# Altium schematic symbol library Schlib1.SchLib: 71 symbols (part 2 of 2)
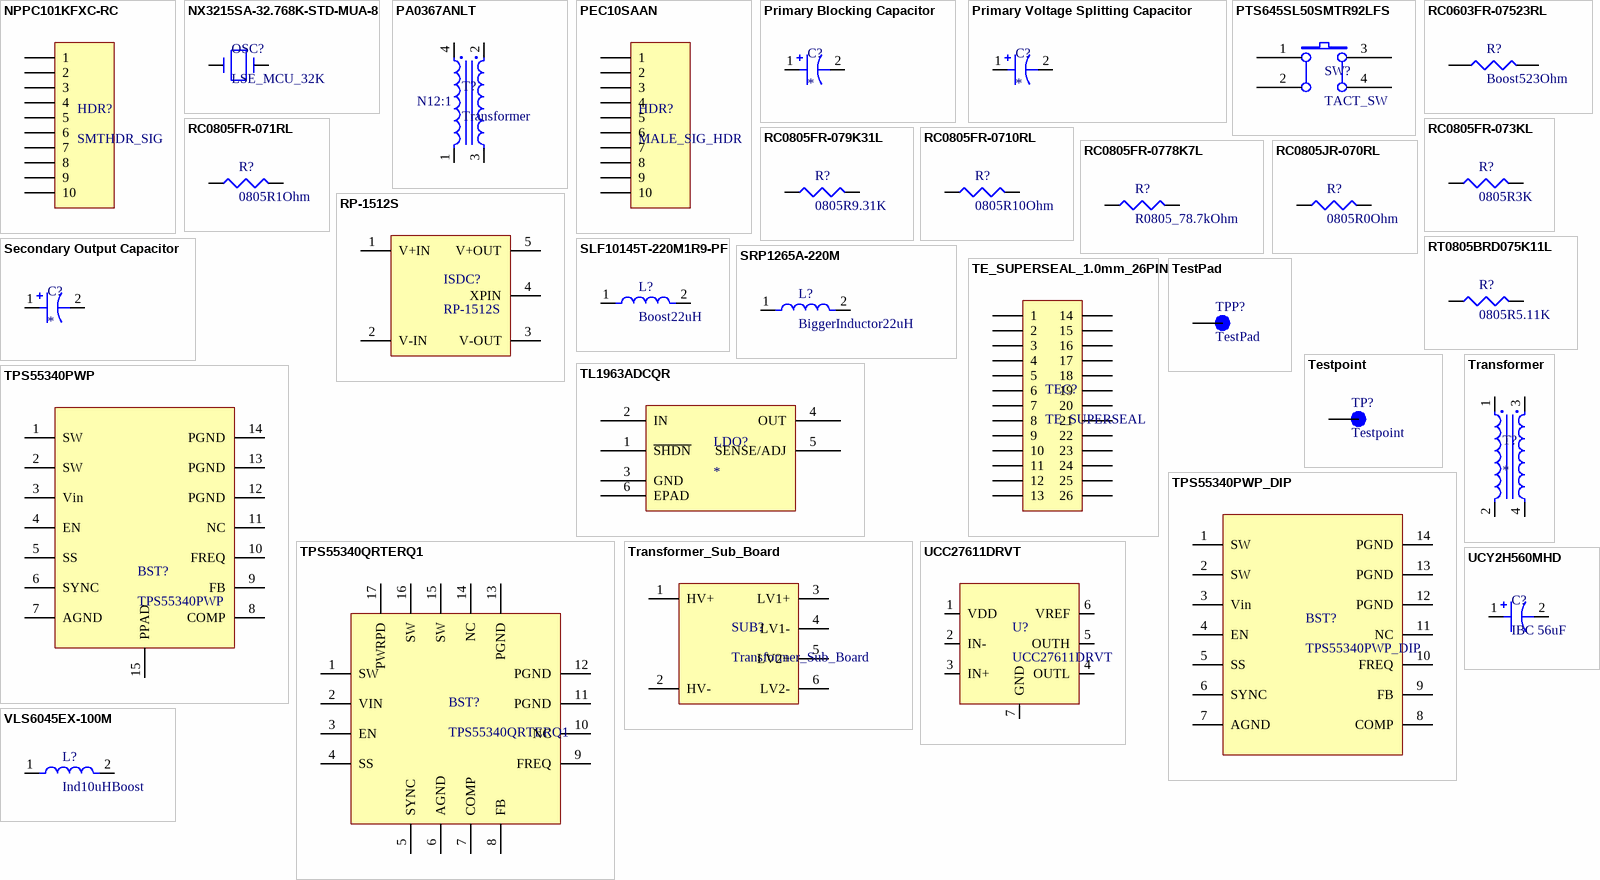
[diagram p2: symbols NPPC101KFXC-RC to VLS6045EX-100M]

## PA0367ANLT
designator T?, comment Transformer
TRANSFORMER 18UH 1:12 SMD; Manufacturer: Pulse Electronics; Manufacturer Part Number: PA0367ANLT; Chipset Manufacturer: Linear Technology; Type: For DC/DC Converters; Intended Chipset: LT3420; Voltage - Isolation: 500Vrms; Online Catalog: SMT Flyback Transformer; Other Names: 553-1978-6; Supplier 1: Digi-Key; Stock 1: 4609; Pricing 1: 1=4.47, 10=3.619, 25=2.926, 50=2.7412, 100=2.618 (USD); Standard Package: 1; Category: Transformers; Family: Switching Converter, SMPS Transformers; Series: -; Packaging: Digi-Reel®; Applications: Flyback Converters; Voltage - Primary: -; Voltage - Auxillary: -; Frequency: -; Operating Temperature: -40°C ~ 130°C; Mounting Type: Surface Mount; Size / Dimension: 11.68mm L x 11.68mm W; Height - Seated (Max): 5.20mm; ComponentLink1URL: http://www.mouser.com/ds/2/336/-8284.pdf; ComponentLink1Description: http://www.mouser.com/ds/2/336/-8284.pdf; ComponentLink2URL: https://media.digikey.com/pdf/Data%20Sheets/Pulse%20PDFs/PA0367A.pdf; ComponentLink2Description: https://media.digikey.com/pdf/Data%20Sheets/Pulse%20PDFs/PA0367A.pdf; ComponentLink3URL: http://productfinder.pulseeng.com/products/datasheets/P563.pdf; ComponentLink3Description: http://productfinder.pulseeng.com/products/datasheets/P563.pdf
pins: 1, 2, 3, 4
text: N12:1

## PEC10SAAN
designator HDR?, comment MALE_SIG_HDR
CONN HEADER .100 SINGL STR 10POS; Manufacturer: Sullins; Manufacturer Part Number: PEC10SAAN; Catalog Drawings: PEC,PBC Series Single Side / PEC,PBC Series Straight Front; Connector Type: Header, Unshrouded, Breakaway; Number of Positions: 10; Number of Positions Loaded: All; Pitch: 0.100" (2.54mm); Dynamic Catalog: GxC and PxC; Mating Products: S7043-ND / - CONN HEADER FMALE 10POS .1" GOLD / S7008-ND / - CONN HEADER FEMALE 10POS.1" TIN / S5641-ND / - CONN FMALE 10POS .1" SMD GOLD / S5602-ND / - CONN FEMALE 10POS .1" SMD TIN / S5485-ND / - CONN FEMALE 10POS .100" R/A GOLD / S5446-ND / - CONN FEMALE 10POS .100" R/A TIN / S4540-ND / - CONN FMALE 10POS .1" SMD GOLD / S4501-ND / - CONN FEMALE 10POS .1" SMD TIN / S4384-ND / - CONN FEMALE 10POS .100" R/A GOLD / S4345-ND / - CONN FEMALE 10POS .100" R/A TIN / More...; Other Names: S1012E-10; Supplier 1: Digi-Key; Stock 1: 1365; Pricing 1: 1=0.59, 10=0.55, 25=0.4948, 50=0.44, 100=0.4217, 250=0.385, 500=0.3667 (USD); Standard Package: 1; Category: Connectors, Interconnects; Family: Rectangular Connectors - Headers, Male Pins; Contact Type: Male Pin; Number of Rows: 1; Contact Mating Length: 0.230" (5.84mm); Mounting Type: Through Hole; Termination: Solder; Contact Finish: Tin; Contact Finish Thickness: 100µin (2.54µm); Color: Black; Packaging: Bulk
footprint DIP_10_MALE
pins: 1, 2, 3, 4, 5, 6, 7, 8, 9, 10

## Primary Blocking Capacitor
designator C?
Primary Blocking Capacitor
pins: 1, 2

## Primary Voltage Splitting Capacitor
designator C?
Primary Voltage Splitting Capacitor
pins: 1, 2

## PTS645SL50SMTR92LFS
designator SW?, comment TACT_SW
SWITCH TACTILE SPST-NO 0.05A 12V; Manufacturer: ITT C&K; Manufacturer Part Number: PTS645SL50SMTR92LFS; Actuator Style: Round Button; Body Orientation: Straight; Ground Terminal: No; Illumination Type: Not Required; Mechanical Life: 100000; Operating Force: 1.27 N; Pole Throw Configuration: SPST; Product Depth (mm): 9 mm; Product Height (mm): 5 mm; Product Length (mm): 6 mm; Switch Function Configuration: N.O.; Supplier 1: Digi-Key; Stock 1: 107182; Pricing 1: 1=0.16, 10=0.157, 25=0.1516, 50=0.1462, 100=0.1381, 250=0.13, 500=0.1245 (USD); Contact Plating: Silver; Current Rating (Max): 0.05 A; Mounting Style: Surface Mount; Operating Temp Range: -20C to 60C; Packaging: Tape and Reel; Terminal Type: Gull Wing; Voltage Rating (VDC): 12 V; ComponentLink1URL: https://www.ckswitches.com/media/1471/pts645.pdf; ComponentLink1Description: https://www.ckswitches.com/media/1471/pts645.pdf; ComponentLink2URL: //media.digikey.com/pdf/Data%20Sheets/C&K/PTS645_Series.pdf; ComponentLink2Description: //media.digikey.com/pdf/Data%20Sheets/C&K/PTS645_Series.pdf; ComponentLink3URL: http://www.farnell.com/datasheets/1839862.pdf; ComponentLink3Description: http://www.farnell.com/datasheets/1839862.pdf; ComponentLink4URL: https://www.verical.com/server-webapp/html/getDatasheet?partID=760859; ComponentLink4Description: https://www.verical.com/server-webapp/html/getDatasheet?partID=760859
footprint PUSH_SW
pins: 1 A0, 2 A1, 3 B0, 4 B1

## RC0603FR-07523RL
designator R?, comment Boost523Ohm
RES SMD 523 OHM 1% 1/10W 0603; Manufacturer: Yageo; Manufacturer Part Number: RC0603FR-07523RL; Product Training Modules: Chip Resistor; Catalog Drawings: Thick Film Resistor Side; PCN Other: RC/AC 0603/0805/1206 22/Jan/2013; HTML Datasheet: RC Series, L Suffix Datasheet.html; EDA / CAD Models: Download from Accelerated Designs; Resistance (Ohms): 523; Power (Watts): 0.1W, 1/10W; Temperature Coefficient: ±100ppm/°C; Online Catalog: RC0603 Series; Kits: PHH3-KIT-ND  - RES KIT 100-976 1/10W 5700PCS; Other Names: 311-523HRCT; Supplier 1: Digi-Key; Stock 1: 0; Standard Package: 1; Category: Resistors; Family: Chip Resistor - Surface Mount; Series: RC; Packaging: Cut Tape (CT); Tolerance: ±1%; Composition: Thick Film; Features: Moisture Resistant; Operating Temperature: -55°C ~ 155°C; Package / Case: 0603 (1608 Metric); Supplier Device Package: 0603; Size / Dimension: 0.063" L x 0.031" W (1.60mm x 0.80mm); Height: 0.022" (0.55mm); Number of Terminations: 2; ComponentLink1URL: http://www.yageo.com/documents/recent/PYu-RC_Group_51_RoHS_L_9.pdf; ComponentLink1Description: http://www.yageo.com/documents/recent/PYu-RC_Group_51_RoHS_L_9.pdf; Supplier Part Number 1: 311-523HRTR-ND
footprint C/R0603
pins: 1, 2

## RC0805FR-071RL
designator R?, comment 0805R1Ohm
RES SMD 1 OHM 1% 1/8W 0805; Manufacturer: Yageo; Manufacturer Part Number: RC0805FR-071RL; Resistance: 1 Ohms; Power Rating: 125 mW (1/8 W); Voltage Rating: 150 V; Temperature Coefficient: 200 PPM / C; Supplier 1: Digi-Key; Stock 1: 179809; Pricing 1: 1=0.1, 10=0.082, 100=0.0316, 1000=0.0139, 2500=0.012 (USD); Termination Style: SMD/SMT; Product: Thick Film Resistors General Purpose; Tolerance: 1 %; Case Code - in: 0805; Case Code - mm: 2012; Series: RC; Operating Temperature Range: - 55 C to + 155 C; Packaging: Reel; Supplier Part Number 1: 311-1.00CRCT-ND
footprint C/R0805
pins: 1, 2

## RC0805FR-073KL
designator R?, comment 0805R3K
RES SMD 3K OHM 1% 1/8W 0805; Manufacturer: Yageo; Manufacturer Part Number: RC0805FR-073KL; Resistance: 3 kOhms; Power Rating: 125 mW (1/8 W); Voltage Rating: 150 V; Temperature Coefficient: 100 PPM / C; Supplier 1: Digi-Key; Stock 1: 27181; Pricing 1: 1=0.1, 10=0.046, 100=0.0186, 1000=0.0084, 2500=0.0073 (USD); Termination Style: SMD/SMT; Product: Thick Film Resistors General Purpose; Tolerance: 1 %; Case Code - in: 0805; Case Code - mm: 2012; Series: RC; Operating Temperature Range: - 55 C to + 155 C; Packaging: Reel; Supplier Part Number 1: 311-3.00KCRCT-ND
footprint C/R0805
pins: 1, 2

## RC0805FR-079K31L
designator R?, comment 0805R9.31K
RES SMD 9.31K OHM 1% 1/8W 0805; Manufacturer: Yageo; Manufacturer Part Number: RC0805FR-079K31L; Product Training Modules: Chip Resistor; Catalog Drawings: Thick Film Resistor Side; PCN Other: RC/AC 0603/0805/1206 22/Jan/2013; HTML Datasheet: RC Series, L Suffix Datasheet.html; EDA / CAD Models: Download from Accelerated Designs; Power (Watts): 0.125W, 1/8W; Temperature Coefficient: ±100ppm/°C; Online Catalog: RC0805 Series; Kits: PHC4A-KIT-ND  - RES KIT 1K-9.76K 1/8W 5700PCS PHC4-KIT-ND  - RES KIT 1K-9.76K 1/8W 22800PCS; Other Names: 311-9.31KCRCT; Supplier 1: Digi-Key; Stock 1: 120020; Pricing 1: 1=0.1, 10=0.046, 100=0.0186, 1000=0.0084, 2500=0.0073 (USD); Standard Package: 1; Category: Resistors; Family: Chip Resistor - Surface Mount; Series: RC; Packaging: Cut Tape (CT); Resistance (Ohms): 9.31k; Tolerance: ±1%; Composition: Thick Film; Features: Moisture Resistant; Operating Temperature: -55°C ~ 155°C; Package / Case: 0805 (2012 Metric); Supplier Device Package: 0805; Size / Dimension: 0.079" L x 0.049" W (2.00mm x 1.25mm); Height: 0.024" (0.60mm); Number of Terminations: 2; Supplier Part Number 1: 311-9.31KCRCT-ND
footprint C/R0805
pins: 1, 2

## RC0805FR-0710RL
designator R?, comment 0805R10Ohm
RES SMD 10 OHM 1% 1/8W 0805; Manufacturer: Yageo; Manufacturer Part Number: RC0805FR-0710RL; Resistance: 10ohm; Voltage Rating: 150V; Resistor Case Style: 0805 [2012 Metric]; Power Rating: 250mW; Product Range: RC Series; Resistor Element Type: Thick Film; Temperature Coefficient: ± 200ppm/°C; SVHC: To Be Advised; Supplier 1: Digi-Key; Stock 1: 1140371; Pricing 1: 1=0.1, 10=0.082, 100=0.0316, 1000=0.0139, 2500=0.012 (USD); Resistance Tolerance: ± 1%; Packaging: Cut Tape; Automotive Qualification Standard: -; MSL: MSL 1 - Unlimited; Supplier Part Number 1: 311-10.0CRCT-ND
footprint C/R0805
pins: 1, 2

## RC0805FR-0778K7L
designator R?, comment R0805_78.7kOhm
RES SMD 78.7K OHM 1% 1/8W 0805; Manufacturer: Yageo; Manufacturer Part Number: RC0805FR-0778K7L; Resistance: 78.7 kOhms; Power Rating: 125 mW (1/8 W); Voltage Rating: 150 V; Temperature Coefficient: 100 PPM / C; Supplier 1: Digi-Key; Stock 1: 168654; Pricing 1: 1=0.1, 10=0.056, 100=0.0228, 1000=0.0102, 2500=0.0089 (USD); Termination Style: SMD/SMT; Product: Thick Film Resistors General Purpose; Tolerance: 1 %; Case Code - in: 0805; Case Code - mm: 2012; Series: RC; Operating Temperature Range: - 55 C to + 155 C; Packaging: Reel; Supplier Part Number 1: 311-78.7KCRCT-ND
footprint C/R0805
pins: 1, 2

## RC0805JR-070RL
designator R?, comment 0805R0Ohm
YAGEO RC0805JR-070RL RES, THICK FILM, 0R, 0.125W, 0805; Voltage Rating: 150 V; Temperature Coefficient: 200 PPM / C; Power Rating: 125 mW (1/8 W); Tolerance: 5 %; Resistance: 0 Ohms; Supplier 1: Digi-Key; Manufacturer: Yageo; Manufacturer Part Number: RC0805JR-070RL; Stock 1: 1335374; Pricing 1: 1=0.1, 10=0.037, 25=0.0272, 50=0.0206, 100=0.0153, 250=0.0116, 500=0.0093, 1000=0.0069 (USD); Termination Style: SMD/SMT; Product: Thick Film Resistors Zero-Ohm; Case Code - in: 0805; Case Code - mm: 2012; Series: RC; Operating Temperature Range: - 55 C to + 155 C; Packaging: Reel; Supplier Part Number 1: 311-0.0ARCT-ND
footprint C/R0805
pins: 1, 2

## RP-1512S
designator ISDC?
CONV DC/DC 1W 15VIN 12VOUT; Manufacturer: Recom; Number of Outputs: 1; Voltage - Input (Min): 13.5V; Voltage - Input (Max): 16.5V; Voltage - Output 1: 12V; Current - Output (Max): 84mA; Voltage - Isolation: 5.2kV (5200V); Efficiency: 78%; Other Names: 10000656 RP1512S; Supplier 1: Digi-Key; Manufacturer Part Number: RP-1512S; Stock 1: 32; Pricing 1: 1=11.67, 5=11.578, 10=11.489, 25=11.312, 50=10.9586, 100=9.898, 250=9.7212, 500=9.5445 (USD); Standard Package: 25; Category: Power Supplies - Board Mount; Family: DC DC Converters; Series: ECONOLINE RP; Packaging: Tube; Type: Isolated Module; Voltage - Output 2: -; Voltage - Output 3: -; Power (Watts) - Manufacture Series: 1W; Features: SCP; Mounting Type: Through Hole; Package / Case: 7-SIP Module (4 Leads); Size / Dimension: 0.77" L x 0.28" W x 0.40" H (19.7mm x 7.1mm x 10.2mm); Operating Temperature: -40°C ~ 85°C; Power (Watts) - Max: 1W; Supplier Part Number 1: RP-1512S-ND
footprint RP-1512S
pins: 1 V+IN, 2 V-IN, 3 V-OUT, 4 XPIN, 5 V+OUT

## RT0805BRD075K11L
designator R?, comment 0805R5.11K
RES SMD 5.11K OHM 0.1% 1/8W 0805; Manufacturer: Yageo; Manufacturer Part Number: RT0805BRD075K11L; Temperature Coefficient: 25 PPM / C; Voltage Rating: 150 V; Resistance: 5.11 kOhms; Power Rating: 125 mW (1/8 W); Supplier 1: Digi-Key; Stock 1: 7794; Pricing 1: 1=0.44, 10=0.313, 100=0.1253, 1000=0.0617, 2500=0.0572 (USD); Package / Case: 0805 (2012 metric); Termination Style: SMD/SMT; Case Code - in: 0805; Case Code - mm: 2012; Series: RT; Operating Temperature Range: - 55 C to + 125 C; Dimensions: 1.25 mm W x 2 mm L x 0.5 mm H; Tolerance: 0.1 %; Product: Thin Film Resistors SMD; Packaging: Reel; Supplier Part Number 1: YAG4922CT-ND
footprint C/R0805
pins: 1, 2

## Secondary Output Capacitor
designator C?
Secondary Output Capacitor
pins: 1, 2

## SLF10145T-220M1R9-PF
designator L?, comment Boost22uH
FIXED IND 22UH 1.9A 70.9 MOHM; Manufacturer: TDK; Manufacturer Part Number: SLF10145T-220M1R9-PF; Other Related Documents: SLF(-H) Series Comparison; Product Training Modules: SMD Inductors; Catalog Drawings: SLF101(45,65) Series Top SLF101(45,65) Series Bottom SLF101(45,65) Series Footprint SLF10145 Series Side; EDA / CAD Models: Download from Accelerated Designs; Type: Wirewound; Material - Core: Ferrite; Inductance: 22µH; Tolerance: ±20%; Current - Saturation: 2.1A; Shielding: Shielded; DC Resistance (DCR): 70.9 mOhm Max; Frequency - Test: 1kHz; Online Catalog: SLF Series; Other Names: 445-1981-6; Supplier 1: Digi-Key; Stock 1: 2026; Pricing 1: 1=1.21, 10=1.121, 100=0.8108 (USD); Standard Package: 1; Category: Inductors, Coils, Chokes; Family: Fixed Inductors; Series: SLF; Packaging: Digi-Reel®; Current Rating: 1.9A; Operating Temperature: -40°C ~ 105°C; Mounting Type: Surface Mount; Package / Case: Nonstandard; Size / Dimension: 0.398" L x 0.398" W (10.10mm x 10.10mm); Height - Seated (Max): 0.189" (4.80mm); ComponentLink1URL: https://www.verical.com/server-webapp/html/getDatasheet?partID=226772; ComponentLink1Description: https://www.verical.com/server-webapp/html/getDatasheet?partID=226772; ComponentLink2URL: http://documents.rs-components.com/techlib://itc_doclist_GB.htm?stockno=6043930; ComponentLink2Description: http://documents.rs-components.com/techlib://itc_doclist_GB.htm?stockno=6043930; ComponentLink3URL: http://www.farnell.com/datasheets/2041195.pdf; ComponentLink3Description: http://www.farnell.com/datasheets/2041195.pdf; Supplier Part Number 1: 445-1981-1-ND
footprint SLF10145
pins: 1, 2

## SRP1265A-220M
designator L?, comment BiggerInductor22uH
Inductor Power Shielded Wirewound 22uH 20% 100KHz 20Q-Factor Carbonyl Powder 9A 37mOhm DCR Automotive T/R; Manufacturer: Bourns; Manufacturer Part Number: SRP1265A-220M; Inductance: 22µH; Current - Saturation: 12A; DC Resistance (DCR): 37 mOhm Max; Q @ Freq: 20 @ 100kHz; Frequency - Self Resonant: 6MHz; Supplier 1: Digi-Key; Stock 1: 30760; Pricing 1: 1=2.06, 10=1.898, 100=1.3283 (USD); Category: Inductors, Coils, Chokes; Family: Fixed Inductors; Series: SRP1265A; Packaging: Tape & Reel (TR); Type: Wirewound; Material - Core: Carbonyl Powder; Tolerance: ±20%; Current Rating: 9A; Shielding: Shielded; Ratings: AEC-Q200; Operating Temperature: -40°C ~ 150°C; Frequency - Test: 100kHz; Mounting Type: Surface Mount; Package / Case: Nonstandard; Size / Dimension: 0.531" L x 0.492" W (13.50mm x 12.50mm); Height - Seated (Max): 0.252" (6.40mm); ComponentLink1URL: http://www.bourns.com/data/global/pdfs/SRP1265A.pdf; ComponentLink1Description: http://www.bourns.com/data/global/pdfs/SRP1265A.pdf; Supplier Part Number 1: SRP1265A-220MCT-ND
footprint 3R31510
pins: 1, 2

## TE_SUPERSEAL_1.0mm_26PIN
designator TEC?, comment TE_SUPERSEAL
TE_SUPERSEAL_1.0mm_26PIN; SupplierLink: https://www.te.com/usa-en/product-1981051-2.html
footprint Connector
pins: 1, 2, 3, 4, 5, 6, 7, 8, 9, 10, 11, 12, 13, 14, 15, 16, 17, 18, 19, 20, 21, 22, 23, 24, 25, 26

## TestPad
designator TPP?
footprint TestPad
pins: 1 PPAD

## Testpoint
designator TP?
Manufacturer: Keystone Electronics; Manufacturer Part Number: 5000; Catalog Drawings: 5000 Series; Online Catalog: Color Coded Test Points; Alternate Color: 5004K-ND / - TEST POINT PC MINI .040"D YELLOW / 5003K-ND / - TEST POINT PC MINI .040"D ORANGE / 5002K-ND / - TEST POINT PC MINI .040"D WHITE / 5001K-ND / - TEST POINT PC MINI .040"D BLACK; Other Names: 5000K; Supplier 1: Digi-Key; Stock 1: 324405; Pricing 1: 1=0.37, 10=0.316, 50=0.2298, 100=0.2209, 250=0.1983, 1000=0.1616, 2500=0.1442, 5000=0.1352 (USD); RoHS Information: RoHS Compliance Statement; Standard Package: 100; Category: Test and Measurement; Family: Test Points; Series: THM; Packaging: Bulk; Type: PC Test Point, Miniature; Terminal: 0.010" x 0.020" (0.25mm x 0.51mm) Phosphor Bronze Wire, Silver Plated; Mounting Type: 0.040" (1.02mm) Hole Diameter; Material: Base, Nylon 46, UL 94V-0; Color: Red; ComponentLink1URL: http://www.keyelco.com/product-pdf.cfm?p=1309; ComponentLink1Description: http://www.keyelco.com/product-pdf.cfm?p=1309; ComponentLink2URL: http://www.alliedelec.com/m/d/a35543cf4de068fc17c6a4282c4b707f.pdf; ComponentLink2Description: http://www.alliedelec.com/m/d/a35543cf4de068fc17c6a4282c4b707f.pdf; ComponentLink3URL: http://uk.rs-online.com/webdocs/1416/0900766b814167ba.pdf; ComponentLink3Description: http://uk.rs-online.com/webdocs/1416/0900766b814167ba.pdf
footprint TestPoint
pins: 1 PPAD

## TL1963ADCQR
designator LDO?
IC REG LDO ADJ 1.5A SOT223-6; Manufacturer: Texas Instruments; Manufacturer Part Number: TL1963ADCQR; Dropout Voltage (Max): 0.06 V at 1 mA; Input Voltage MAX: 20 V; Input Bias Current (Max): 1 mA; Input Voltage MIN: 1.9 V; Line Regulation: 5 mV; Load Regulation: 8 mV; Number of Outputs: 1; Output Type: Adjustable; Output Voltage: 1.21 V to 20 V; Reference Voltage: 1.21 V; Supplier 1: Digi-Key; Stock 1: 2878; Pricing 1: 1=2.88, 10=2.589, 100=2.121, 500=1.8055, 1000=1.5228 (USD); Factory Pack Quantity: 2500; Output Current: 1.5 A; Maximum Operating Temperature: + 125 C; Mounting Style: SMD/SMT; Minimum Operating Temperature: - 40 C; Product Category: Low Dropout Regulators - LDO; RoHS: Details; Package / Case: SOT-223; Packaging: Reel; Supplier Part Number 1: 296-25119-1-ND
footprint DCQ
pins: 1 ~{SHDN}, 2 IN, 3 GND, 4 OUT, 5 SENSE/ADJ, 6 EPAD

## TPS55340PWP
designator BST?
IC REG MULT CONFIG ISO 14HTSSOP; Manufacturer: Texas Instruments; Input Voltage Min: 2.9V; Input Voltage Max: 32V; No. of Outputs: 1Outputs; DC / DC Converter IC Case: HTSSOP; No. of Pins: 14Pins; Output Current: 5A; Output Voltage Max: 38V; Switching Frequency: 1.2MHz; Topology: Boost, Flyback, SEPIC; SVHC: No SVHC (15-Jun-2015); Supplier 1: Digi-Key; Manufacturer Part Number: TPS55340PWP; Stock 1: 0; Pricing 1: 1=3.76, 10=3.372, 90=3.1882, 180=2.7632, 540=2.3522, 1080=1.9838, 2520=1.8846, 5040=1.8138 (USD); Output Voltage Min: 2.9V; Operating Temperature Max: 150°C; Packaging: Cut Tape; Product Range: -; Automotive Qualification Standard: -; MSL: MSL 2 - 1 year; ComponentLink1URL: http://www.ti.com/lit/ds/symlink/tps55340.pdf; ComponentLink1Description: http://www.ti.com/lit/ds/symlink/tps55340.pdf; ComponentLink2URL: http://www.farnell.com/datasheets/2019229.pdf; ComponentLink2Description: http://www.farnell.com/datasheets/2019229.pdf; Supplier Part Number 1: 296-35493-5-ND
footprint HTSSOP14
pins: 1 SW, 2 SW, 3 Vin, 4 EN, 5 SS, 6 SYNC, 7 AGND, 8 COMP, 9 FB, 10 FREQ, 11 NC, 12 PGND, 13 PGND, 14 PGND, 15 PPAD

## TPS55340PWP_DIP
designator BST?
IC REG MULT CONFIG ISO 14HTSSOP; Manufacturer: Texas Instruments; Input Voltage Min: 2.9V; Input Voltage Max: 32V; No. of Outputs: 1Outputs; DC / DC Converter IC Case: HTSSOP; No. of Pins: 14Pins; Output Current: 5A; Output Voltage Max: 38V; Switching Frequency: 1.2MHz; Topology: Boost, Flyback, SEPIC; SVHC: No SVHC (15-Jun-2015); Supplier 1: Digi-Key; Manufacturer Part Number: TPS55340PWP; Stock 1: 0; Pricing 1: 1=3.76, 10=3.372, 90=3.1882, 180=2.7632, 540=2.3522, 1080=1.9838, 2520=1.8846, 5040=1.8138 (USD); Output Voltage Min: 2.9V; Operating Temperature Max: 150°C; Packaging: Cut Tape; Product Range: -; Automotive Qualification Standard: -; MSL: MSL 2 - 1 year; ComponentLink1URL: http://www.ti.com/lit/ds/symlink/tps55340.pdf; ComponentLink1Description: http://www.ti.com/lit/ds/symlink/tps55340.pdf; ComponentLink2URL: http://www.farnell.com/datasheets/2019229.pdf; ComponentLink2Description: http://www.farnell.com/datasheets/2019229.pdf; Supplier Part Number 1: 296-35493-5-ND
footprint DIP14_HTSSOP
pins: 1 SW, 2 SW, 3 Vin, 4 EN, 5 SS, 6 SYNC, 7 AGND, 8 COMP, 9 FB, 10 FREQ, 11 NC, 12 PGND, 13 PGND, 14 PGND

## TPS55340QRTERQ1
designator BST?
Conv DC-DC 2.9V to 38V Step Up Single-Out 2.9V to 38V 5A Automotive 16-Pin WQFN EP T/R; Manufacturer: Texas Instruments; Function: Step-Up, Step-Up/Step-Down; Output Configuration: Positive, Isolation Capable; Topology: Boost, Flyback, SEPIC; Output Type: Adjustable; Number of Outputs: 1; Current - Output: 5.25A (Switch); Frequency - Switching: 94kHz ~ 2.55MHz; Synchronous Rectifier: No; Supplier 1: Digi-Key; Manufacturer Part Number: TPS55340QRTERQ1; Stock 1: 4516; Pricing 1: 1=5.67, 10=5.092, 100=4.1717, 500=3.5513, 1000=2.995 (USD); Category: Integrated Circuits (ICs); Family: PMIC - Voltage Regulators - DC DC Switching Regulators; Series: Automotive, AEC-Q100; Packaging: Tape & Reel (TR); Voltage - Input (Min): 2.9V; Voltage - Input (Max): 38V; Voltage - Output (Min/Fixed): 2.9V; Voltage - Output (Max): 38V; Operating Temperature: -40°C ~ 125°C (TA); Mounting Type: Surface Mount; Package / Case: 16-WFQFN Exposed Pad; Supplier Device Package: 16-WQFN (3x3); Supplier Part Number 1: 296-40811-1-ND
footprint PWQFN16
pins: 1 SW, 2 VIN, 3 EN, 4 SS, 5 SYNC, 6 AGND, 7 COMP, 8 FB, 9 FREQ, 10 NC, 11 PGND, 12 PGND, 13 PGND, 14 NC, 15 SW, 16 SW, 17 PWRPD

## Transformer
designator T?
Transformer
pins: 1, 2, 3, 4

## Transformer_Sub_Board
designator SUB?
footprint TF_SubBoard_Pads
pins: 1 HV+, 2 HV-, 3 LV1+, 4 LV1-, 5 LV2+, 6 LV2-

## UCC27611DRVT
designator U?
IC GATE DRVR 6SON; Manufacturer: Texas Instruments; Number of Drivers: 1; Driver Configuration: Inverting/Non-Inverting; Driver Type: High Speed; Input Logic Level: CMOS/TTL; Rise Time: 5ns; Propagation Delay Time: 25ns; Operating Supply Voltage (Max): 18V; Operating Supply Voltage (Min): 4V; Operating Supply Voltage (Typ): 12V; Supplier 1: Digi-Key; Manufacturer Part Number: UCC27611DRVT; Stock 1: 18005; Pricing 1: 1=2.62, 10=2.35, 100=1.8889 (USD); Fall Time: 5ns; Operating Temp Range: -40C to 140C; Operating Temperature Classification: Automotive; Mounting: Surface Mount; Pin Count: 6; Package Type: WSON EP; Packaging: Tape and Reel; Supplier Part Number 1: 296-35639-1-ND
footprint UCC27611
pins: 1 VDD, 2 IN-, 3 IN+, 4 OUTL, 5 OUTH, 6 VREF, 7 GND

## UCY2H560MHD
designator C?, comment IBC 56uF
CAP ALUM 56UF 20% 500V RADIAL; Manufacturer: Nichicon; Manufacturer Part Number: UCY2H560MHD; Capacitance: 56µF; Lifetime @ Temp.: 12000 Hrs @ 105°C; Type: Polar; Ripple Current: 480mA; Online Catalog: CY Series; Other Names: 493-6863; Supplier 1: Digi-Key; Stock 1: 3648; Pricing 1: 1=4.44, 10=3.996, 100=3.0191, 500=2.4864, 1000=2.3088, 2500=2.3003 (USD); Standard Package: 50; Category: Capacitors; Family: Aluminum Capacitors; Series: CY; Packaging: Bulk; Tolerance: ±20%; Voltage Rating: 500V; ESR (Equivalent Series Resistance): -; Operating Temperature: -25°C ~ 105°C; Applications: General Purpose; Impedance: -; Lead Spacing: 0.295" (7.50mm); Size / Dimension: 0.709" Dia (18.00mm); Height - Seated (Max): 1.457" (37.00mm); Surface Mount Land Size: -; Mounting Type: Through Hole; Package / Case: Radial, Can; ComponentLink1URL: http://nichicon-us.com/english/products/pdfs/e-ucy.pdf; ComponentLink1Description: http://nichicon-us.com/english/products/pdfs/e-ucy.pdf; Supplier Part Number 1: 493-6863-ND
footprint C56uF_Elect
pins: 1, 2

## VLS6045EX-100M
designator L?, comment Ind10uHBoost
VLS6045EX-100M; Manufacturer: TDK; Type: Wirewound; Material - Core: Ferrite; Inductance: 10µH; Tolerance: ±20%; Current Rating: 3.4A; Shielding: Shielded; DC Resistance (DCR): 61 mOhm Max; Frequency - Test: 100kHz; Supplier 1: Digi-Key; Manufacturer Part Number: VLS6045EX-100M; Stock 1: 11956; Pricing 1: 1=0.53, 10=0.463, 100=0.3306, 500=0.2777 (USD); Category: Inductors, Coils, Chokes; Family: Fixed Inductors; Series: VLS-EX; Packaging: Tape & Reel (TR); Current - Saturation: -; Q @ Freq: -; Frequency - Self Resonant: -; Ratings: -; Operating Temperature: -40°C ~ 105°C; Mounting Type: Surface Mount; Package / Case: Nonstandard; Size / Dimension: 0.236" L x 0.236" W (6.00mm x 6.00mm); Height - Seated (Max): 0.177" (4.50mm)
footprint BOOST_INDUCTOR_10uH
pins: 1, 2